# Altium integrated library PowerInductors.IntLib: 35 symbols (part 2 of 2)
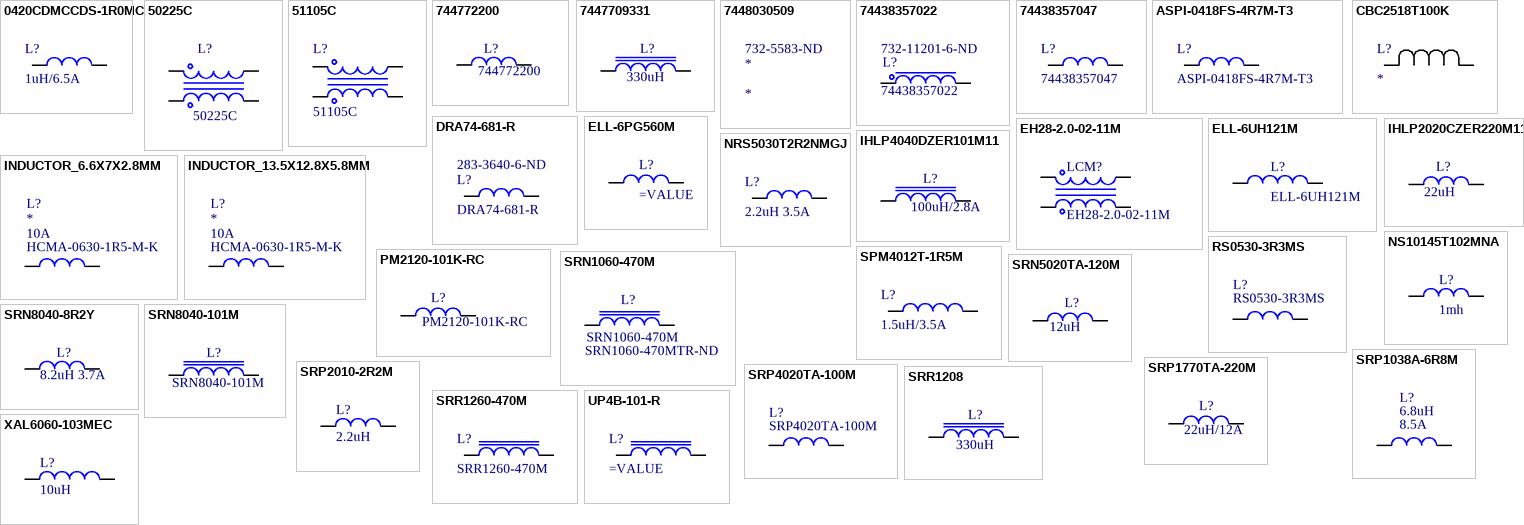
[diagram p1: symbols 0420CDMCCDS-1R0MC to XAL6060-103MEC]

## XAL6060-103MEC
designator L?, comment 10uH
Inductor, 7A, 10uH, +/-20%, 27mOhm Max. DCR.; Manuf1: Coilcraft; Manuf1Partnumber: XAL6060-103MEC; Populated: Yes; ComponentLink1Description: Manufacturer Web; ComponentLink2Description: Datasheet Web; ComponentLink3Description: Digikey Web; LatestRevisionDate: 13-January-2015; PackageReference: Coilcraft_Custom; ROHS: Yes; Value: 10uH; Supplier 1: Farnell; Supplier Part Number 1: 2289091
footprint XAL60xx (Coilcraft, Body 5.12x5.24mm, IPC Medium Density)
pins: 1, 2